# Altium footprint library JST GH connector.PcbLib: 28 footprints (part 1 of 2)
Each footprint in its own frame and in the unit in brackets; x right, y up, seen from the top. Pads: shape width x height; smd on the part's side, far side on the other; paste and mask are expansions set on the pad; w line width, h text height; cw(c..) or ccw(c..) is an arc to the next point about the centre after c.
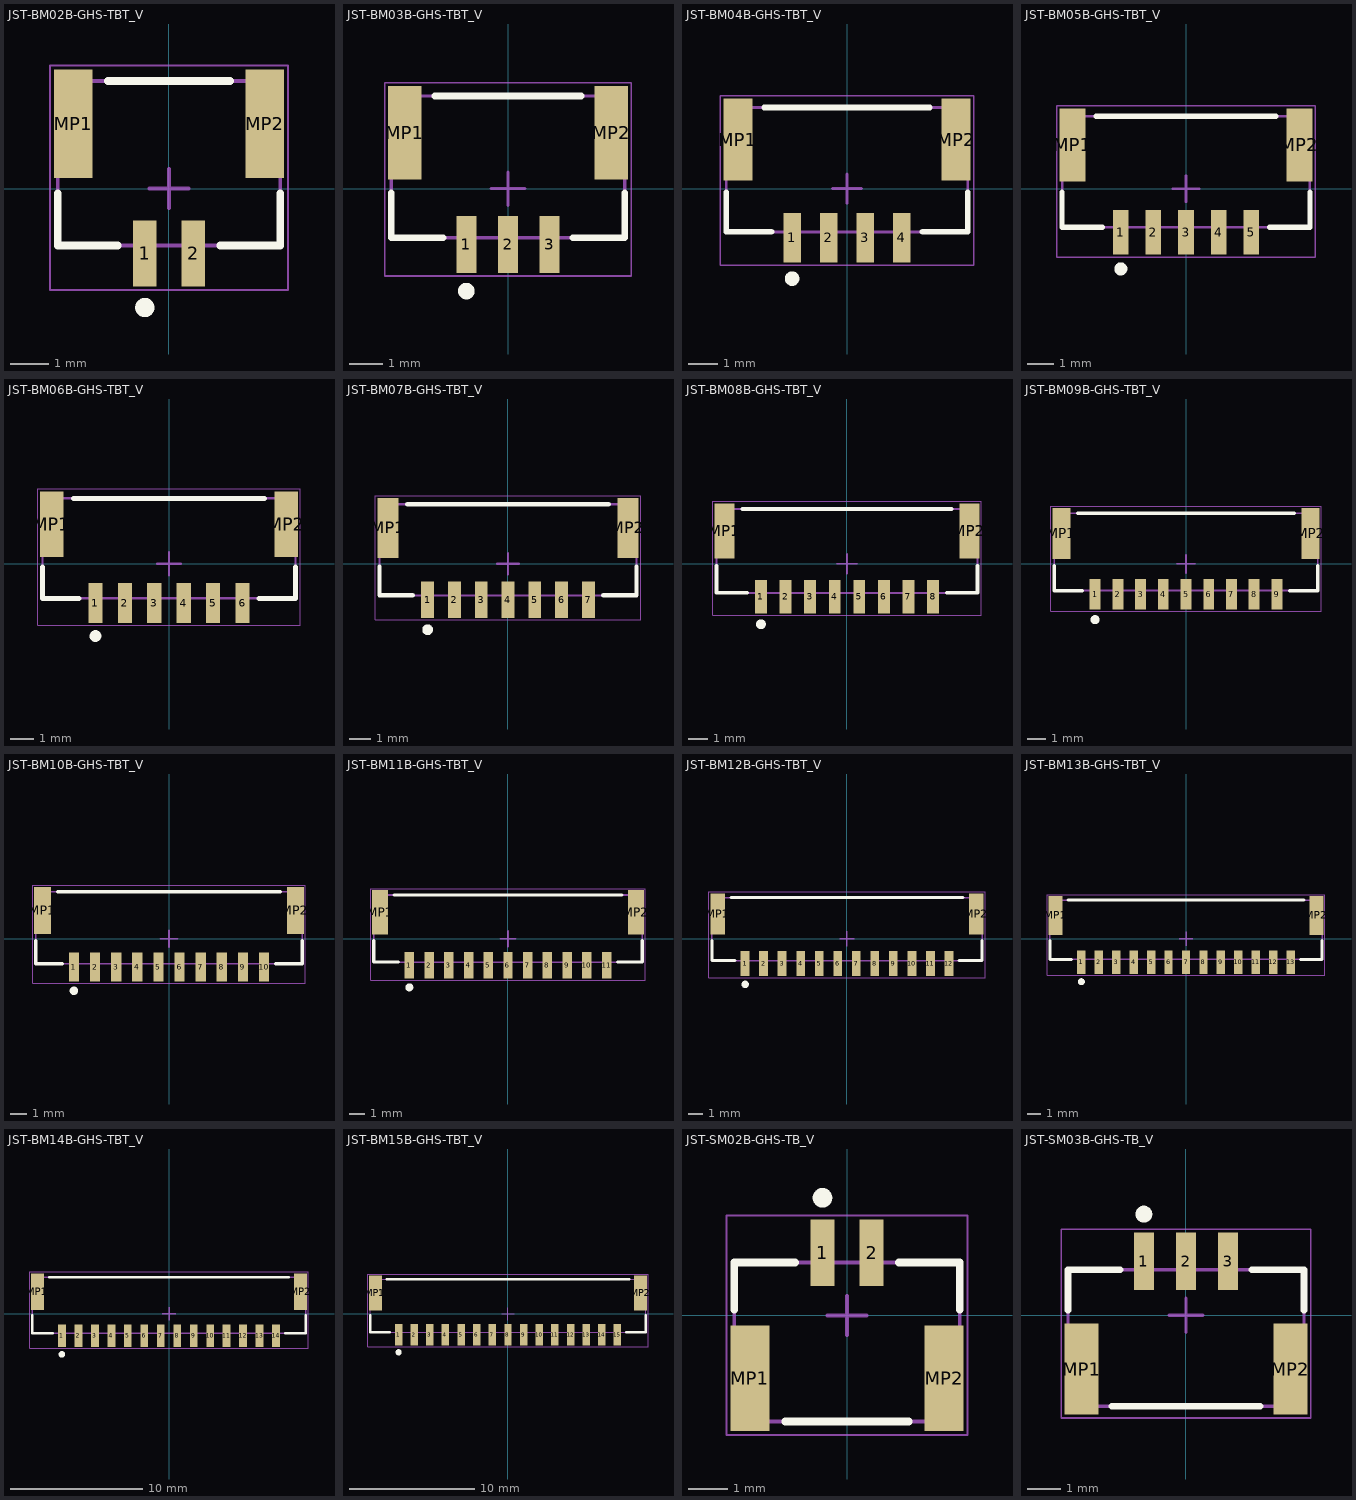
[diagram p0: the footprints below, top view; thin cyan lines are the x and y axes]

## JST-BM02B-GHS-TBT_V [mm] "Connector, 2-Leads, Body 5.75x4.25mm, Pitch 1.25mm"
height 4.05
pads (4):
  rect 0.6x1.7 smd: 1(-0.625,-1.675) 2(0.625,-1.675)
  rect 1x2.8 smd: MP1(-2.475,1.675) MP2(2.475,1.675)
Top Overlay:
  circle w0.25: c-0.625,-3.075 r0.125
  lines w0.2: -2.875,-0.125 -2.875,-1.475 -1.325,-1.475 ; -1.575,2.775 1.575,2.775 ; 1.325,-1.475 2.875,-1.475 2.875,-0.125
Mechanical 13:
  lines w0.1: -2.875,-1.475 2.875,-1.475 2.875,2.775 -2.875,2.775 -2.875,-1.475
Mechanical 15:
  lines w0.05: -3.075,-2.625 3.075,-2.625 3.075,3.175 -3.075,3.175 -3.075,-2.625
  lines w0.1: -0.5,0 0.5,0 ; 0,-0.5 0,0.5
3D body "BM02B-GHS-TBT.STEP": height 4.21, standoff 0.01, extent -2.875,-2.175 2.875,2.775

## JST-BM03B-GHS-TBT_V [mm] "Connector, 3-Leads, Body 7.00x4.25mm, Pitch 1.25mm"
height 4.05
pads (5):
  rect 0.6x1.7 smd: 1(-1.25,-1.675) 2(0,-1.675) 3(1.25,-1.675)
  rect 1x2.8 smd: MP1(-3.1,1.675) MP2(3.1,1.675)
Top Overlay:
  circle w0.25: c-1.25,-3.075 r0.125
  lines w0.2: -3.5,-0.125 -3.5,-1.475 -1.95,-1.475 ; -2.2,2.775 2.2,2.775 ; 1.95,-1.475 3.5,-1.475 3.5,-0.125
Mechanical 13:
  lines w0.1: -3.5,-1.475 -3.5,2.775 3.5,2.775 3.5,-1.475 -3.5,-1.475
Mechanical 15:
  lines w0.05: -3.7,-2.625 -3.7,3.175 3.7,3.175 3.7,-2.625 -3.7,-2.625
  lines w0.1: -0.5,0 0.5,0 ; 0,-0.5 0,0.5
3D body "BM03B-GHS-TBT.STEP": height 4.21, standoff 0.01, extent -3.5,-2.175 3.5,2.775

## JST-BM04B-GHS-TBT_V [mm] "Connector, 4-Leads, Body 8.25x4.25mm, Pitch 1.25mm"
height 4.05
pads (6):
  rect 0.6x1.7 smd: 1(-1.875,-1.675) 2(-0.625,-1.675) 3(0.625,-1.675) 4(1.875,-1.675)
  rect 1x2.8 smd: MP1(-3.725,1.675) MP2(3.725,1.675)
Top Overlay:
  circle w0.25: c-1.875,-3.075 r0.125
  lines w0.2: -4.125,-0.125 -4.125,-1.475 -2.575,-1.475 ; -2.825,2.775 2.825,2.775 ; 2.575,-1.475 4.125,-1.475 4.125,-0.125
Mechanical 13:
  lines w0.1: -4.125,-1.475 -4.125,2.775 4.125,2.775 4.125,-1.475 -4.125,-1.475
Mechanical 15:
  lines w0.05: -4.325,-2.625 -4.325,3.175 4.325,3.175 4.325,-2.625 -4.325,-2.625
  lines w0.1: -0.5,0 0.5,0 ; 0,-0.5 0,0.5
3D body "BM04B-GHS-TBT.STEP": height 4.2, standoff 0, extent -4.125,-2.175 4.125,2.775

## JST-BM05B-GHS-TBT_V [mm] "Connector, 5-Leads, Body 9.5x4.25mm, Pitch 1.25mm"
height 4.05
pads (7):
  rect 0.6x1.7 smd: 1(-2.5,-1.675) 2(-1.25,-1.675) 3(0,-1.675) 4(1.25,-1.675) 5(2.5,-1.675)
  rect 1x2.8 smd: MP1(-4.35,1.675) MP2(4.35,1.675)
Top Overlay:
  circle w0.25: c-2.5,-3.075 r0.125
  lines w0.2: -4.75,-0.125 -4.75,-1.475 -3.2,-1.475 ; -3.45,2.775 3.45,2.775 ; 3.2,-1.475 4.75,-1.475 4.75,-0.125
Mechanical 13:
  lines w0.1: -4.75,-1.475 -4.75,2.775 4.75,2.775 4.75,-1.475 -4.75,-1.475
Mechanical 15:
  lines w0.05: -4.95,-2.625 -4.95,3.175 4.95,3.175 4.95,-2.625 -4.95,-2.625
  lines w0.1: -0.5,0 0.5,0 ; 0,-0.5 0,0.5
3D body "BM05B-GHS-TBT.STEP": height 4.2, standoff 0, extent -4.75,-2.175 4.75,2.775

## JST-BM06B-GHS-TBT_V [mm] "Connector, 6-Leads, Body 10.75x4.25mm, Pitch 1.25mm"
height 4.05
pads (8):
  rect 0.6x1.7 smd: 1(-3.125,-1.675) 2(-1.875,-1.675) 3(-0.625,-1.675) 4(0.625,-1.675) 5(1.875,-1.675) 6(3.125,-1.675)
  rect 1x2.8 smd: MP1(-4.975,1.675) MP2(4.975,1.675)
Top Overlay:
  circle w0.25: c-3.125,-3.075 r0.125
  lines w0.2: -5.375,-0.125 -5.375,-1.475 -3.825,-1.475 ; -4.075,2.775 4.075,2.775 ; 3.825,-1.475 5.375,-1.475 5.375,-0.125
Mechanical 13:
  lines w0.1: -5.375,-1.475 -5.375,2.775 5.375,2.775 5.375,-1.475 -5.375,-1.475
Mechanical 15:
  lines w0.05: -5.575,-2.625 -5.575,3.175 5.575,3.175 5.575,-2.625 -5.575,-2.625
  lines w0.1: -0.5,0 0.5,0 ; 0,-0.5 0,0.5
3D body "BM06B-GHS-TBT.STEP": height 4.2, standoff 0, extent -5.375,-2.175 5.375,2.775

## JST-BM07B-GHS-TBT_V [mm] "Connector, 7-Leads, Body 12.00x4.25mm, Pitch 1.25mm"
height 4.05
pads (9):
  rect 0.6x1.7 smd: 1(-3.75,-1.675) 2(-2.5,-1.675) 3(-1.25,-1.675) 4(0,-1.675) 5(1.25,-1.675) 6(2.5,-1.675) 7(3.75,-1.675)
  rect 1x2.8 smd: MP1(-5.6,1.675) MP2(5.6,1.675)
Top Overlay:
  circle w0.25: c-3.75,-3.075 r0.125
  lines w0.2: -6,-0.125 -6,-1.475 -4.45,-1.475 ; -4.7,2.775 4.7,2.775 ; 4.45,-1.475 6,-1.475 6,-0.125
Mechanical 13:
  lines w0.1: -6,-1.475 -6,2.775 6,2.775 6,-1.475 -6,-1.475
Mechanical 15:
  lines w0.05: -6.2,-2.625 -6.2,3.175 6.2,3.175 6.2,-2.625 -6.2,-2.625
  lines w0.1: -0.5,0 0.5,0 ; 0,-0.5 0,0.5
3D body "BM07B-GHS-TBT.STEP": height 4.2, standoff 0, extent -6,-2.175 6,2.775

## JST-BM08B-GHS-TBT_V [mm] "Connector, 8-Leads, Body 13.25x4.25mm, Pitch 1.25mm"
height 4.05
pads (10):
  rect 0.6x1.7 smd: 1(-4.375,-1.675) 2(-3.125,-1.675) 3(-1.875,-1.675) 4(-0.625,-1.675) 5(0.625,-1.675) 6(1.875,-1.675) 7(3.125,-1.675) 8(4.375,-1.675)
  rect 1x2.8 smd: MP1(-6.225,1.675) MP2(6.225,1.675)
Top Overlay:
  circle w0.25: c-4.375,-3.075 r0.125
  lines w0.2: -6.625,-0.125 -6.625,-1.475 -5.075,-1.475 ; -5.325,2.775 5.325,2.775 ; 5.075,-1.475 6.625,-1.475 6.625,-0.125
Mechanical 13:
  lines w0.1: -6.625,-1.475 6.625,-1.475 6.625,2.775 -6.625,2.775 -6.625,-1.475
Mechanical 15:
  lines w0.05: -6.825,-2.625 6.825,-2.625 6.825,3.175 -6.825,3.175 -6.825,-2.625
  lines w0.1: -0.5,0 0.5,0 ; 0,-0.5 0,0.5
3D body "BM08B-GHS-TBT.STEP": height 4.2, standoff 0, extent -6.625,-2.175 6.625,2.775

## JST-BM09B-GHS-TBT_V [mm] "Connector, 9-Leads, Body  14.50x4.25mm, Pitch 1.25mm"
height 4.05
pads (11):
  rect 0.6x1.7 smd: 1(-5,-1.675) 2(-3.75,-1.675) 3(-2.5,-1.675) 4(-1.25,-1.675) 5(0,-1.675) 6(1.25,-1.675) 7(2.5,-1.675) 8(3.75,-1.675) 9(5,-1.675)
  rect 1x2.8 smd: MP1(-6.85,1.675) MP2(6.85,1.675)
Top Overlay:
  circle w0.25: c-5,-3.075 r0.125
  lines w0.2: -7.25,-0.125 -7.25,-1.475 -5.7,-1.475 ; -5.95,2.775 5.95,2.775 ; 5.7,-1.475 7.25,-1.475 7.25,-0.125
Mechanical 13:
  lines w0.1: -7.25,-1.475 -7.25,2.775 7.25,2.775 7.25,-1.475 -7.25,-1.475
Mechanical 15:
  lines w0.05: -7.45,-2.625 -7.45,3.175 7.45,3.175 7.45,-2.625 -7.45,-2.625
  lines w0.1: -0.5,0 0.5,0 ; 0,-0.5 0,0.5
3D body "BM09B-GHS-TBT.STEP": height 4.2, standoff 0, extent -7.25,-2.175 7.25,2.775

## JST-BM10B-GHS-TBT_V [mm] "Connector, 10-Leads, Body  15.75x4.25mm, Pitch 1.25mm"
height 4.05
pads (12):
  rect 0.6x1.7 smd: 1(-5.625,-1.675) 2(-4.375,-1.675) 3(-3.125,-1.675) 4(-1.875,-1.675) 5(-0.625,-1.675) 6(0.625,-1.675) 7(1.875,-1.675) 8(3.125,-1.675) 9(4.375,-1.675) 10(5.625,-1.675)
  rect 1x2.8 smd: MP1(-7.475,1.675) MP2(7.475,1.675)
Top Overlay:
  circle w0.25: c-5.625,-3.075 r0.125
  lines w0.2: -7.875,-0.125 -7.875,-1.475 -6.325,-1.475 ; -6.575,2.775 6.575,2.775 ; 6.325,-1.475 7.875,-1.475 7.875,-0.125
Mechanical 13:
  lines w0.1: -7.875,-1.475 7.875,-1.475 7.875,2.775 -7.875,2.775 -7.875,-1.475
Mechanical 15:
  lines w0.05: -8.075,-2.625 8.075,-2.625 8.075,3.175 -8.075,3.175 -8.075,-2.625
  lines w0.1: -0.5,0 0.5,0 ; 0,-0.5 0,0.5
3D body "BM10B-GHS-TBT.STEP": height 4.2, standoff 0, extent -7.875,-2.175 7.875,2.775

## JST-BM11B-GHS-TBT_V [mm] "Connector, 11-Leads, Body  17.00x4.25mm, Pitch 1.25mm"
height 4.05
pads (13):
  rect 0.6x1.7 smd: 1(-6.25,-1.675) 2(-5,-1.675) 3(-3.75,-1.675) 4(-2.5,-1.675) 5(-1.25,-1.675) 6(0,-1.675) 7(1.25,-1.675) 8(2.5,-1.675) 9(3.75,-1.675) 10(5,-1.675) 11(6.25,-1.675)
  rect 1x2.8 smd: MP1(-8.1,1.675) MP2(8.1,1.675)
Top Overlay:
  circle w0.25: c-6.25,-3.075 r0.125
  lines w0.2: -8.5,-0.125 -8.5,-1.475 -6.95,-1.475 ; -7.2,2.775 7.2,2.775 ; 6.95,-1.475 8.5,-1.475 8.5,-0.125
Mechanical 13:
  lines w0.1: -8.5,-1.475 -8.5,2.775 8.5,2.775 8.5,-1.475 -8.5,-1.475
Mechanical 15:
  lines w0.05: -8.7,-2.625 -8.7,3.175 8.7,3.175 8.7,-2.625 -8.7,-2.625
  lines w0.1: -0.5,0 0.5,0 ; 0,-0.5 0,0.5
3D body "BM11B-GHS-TBT.STEP": height 4.2, standoff 0, extent -8.5,-2.175 8.5,2.775

## JST-BM12B-GHS-TBT_V [mm] "Connector, 12-Leads, Body  18.25x4.25mm, Pitch 1.25mm"
height 4.05
pads (14):
  rect 0.6x1.7 smd: 1(-6.875,-1.675) 2(-5.625,-1.675) 3(-4.375,-1.675) 4(-3.125,-1.675) 5(-1.875,-1.675) 6(-0.625,-1.675) 7(0.625,-1.675) 8(1.875,-1.675) 9(3.125,-1.675) 10(4.375,-1.675) 11(5.625,-1.675) 12(6.875,-1.675)
  rect 1x2.8 smd: MP1(-8.725,1.675) MP2(8.725,1.675)
Top Overlay:
  circle w0.25: c-6.875,-3.075 r0.125
  lines w0.2: -9.125,-0.125 -9.125,-1.475 -7.575,-1.475 ; -7.825,2.775 7.825,2.775 ; 7.575,-1.475 9.125,-1.475 9.125,-0.125
Mechanical 13:
  lines w0.1: -9.125,-1.475 9.125,-1.475 9.125,2.775 -9.125,2.775 -9.125,-1.475
Mechanical 15:
  lines w0.05: -9.325,-2.625 9.325,-2.625 9.325,3.175 -9.325,3.175 -9.325,-2.625
  lines w0.1: -0.5,0 0.5,0 ; 0,-0.5 0,0.5
3D body "BM12B-GHS-TBT.STEP": height 4.2, standoff 0, extent -9.125,-2.175 9.125,2.775

## JST-BM13B-GHS-TBT_V [mm] "Connector, 13-Leads, Body  19.50x4.25mm, Pitch 1.25mm"
height 4.05
pads (15):
  rect 0.6x1.7 smd: 1(-7.5,-1.675) 2(-6.25,-1.675) 3(-5,-1.675) 4(-3.75,-1.675) 5(-2.5,-1.675) 6(-1.25,-1.675) 7(0,-1.675) 8(1.25,-1.675) 9(2.5,-1.675) 10(3.75,-1.675) 11(5,-1.675) 12(6.25,-1.675) 13(7.5,-1.675)
  rect 1x2.8 smd: MP1(-9.35,1.675) MP2(9.35,1.675)
Top Overlay:
  circle w0.25: c-7.5,-3.075 r0.125
  lines w0.2: -9.75,-0.125 -9.75,-1.475 -8.2,-1.475 ; -8.45,2.775 8.45,2.775 ; 8.2,-1.475 9.75,-1.475 9.75,-0.125
Mechanical 13:
  lines w0.1: -9.75,-1.475 -9.75,2.775 9.75,2.775 9.75,-1.475 -9.75,-1.475
Mechanical 15:
  lines w0.05: -9.95,-2.625 -9.95,3.175 9.95,3.175 9.95,-2.625 -9.95,-2.625
  lines w0.1: -0.5,0 0.5,0 ; 0,-0.5 0,0.5
3D body "BM13B-GHS-TBT.STEP": height 4.2, standoff 0, extent -9.75,-2.175 9.75,2.775

## JST-BM14B-GHS-TBT_V [mm] "Connector, 14-Leads, Body  20.75x4.25mm, Pitch 1.25mm"
height 4.05
pads (16):
  rect 0.6x1.7 smd: 1(-8.125,-1.675) 2(-6.875,-1.675) 3(-5.625,-1.675) 4(-4.375,-1.675) 5(-3.125,-1.675) 6(-1.875,-1.675) 7(-0.625,-1.675) 8(0.625,-1.675) 9(1.875,-1.675) 10(3.125,-1.675) 11(4.375,-1.675) 12(5.625,-1.675) 13(6.875,-1.675) 14(8.125,-1.675)
  rect 1x2.8 smd: MP1(-9.975,1.675) MP2(9.975,1.675)
Top Overlay:
  circle w0.25: c-8.125,-3.075 r0.125
  lines w0.2: -10.375,-0.125 -10.375,-1.475 -8.825,-1.475 ; -9.075,2.775 9.075,2.775 ; 8.825,-1.475 10.375,-1.475 10.375,-0.125
Mechanical 13:
  lines w0.1: -10.375,-1.475 10.375,-1.475 10.375,2.775 -10.375,2.775 -10.375,-1.475
Mechanical 15:
  lines w0.05: -10.575,-2.625 10.575,-2.625 10.575,3.175 -10.575,3.175 -10.575,-2.625
  lines w0.1: -0.5,0 0.5,0 ; 0,-0.5 0,0.5
3D body "BM14B-GHS-TBT.STEP": height 4.2, standoff 0, extent -10.375,-2.175 10.375,2.775

## JST-BM15B-GHS-TBT_V [mm] "Connector, 15-Leads, Body  22.00x4.25mm, Pitch 1.25mm"
height 4.05
pads (17):
  rect 0.6x1.7 smd: 1(-8.75,-1.675) 2(-7.5,-1.675) 3(-6.25,-1.675) 4(-5,-1.675) 5(-3.75,-1.675) 6(-2.5,-1.675) 7(-1.25,-1.675) 8(0,-1.675) 9(1.25,-1.675) 10(2.5,-1.675) 11(3.75,-1.675) 12(5,-1.675) 13(6.25,-1.675) 14(7.5,-1.675) 15(8.75,-1.675)
  rect 1x2.8 smd: MP1(-10.6,1.675) MP2(10.6,1.675)
Top Overlay:
  circle w0.25: c-8.75,-3.075 r0.125
  lines w0.2: -11,-0.125 -11,-1.475 -9.45,-1.475 ; -9.7,2.775 9.7,2.775 ; 9.45,-1.475 11,-1.475 11,-0.125
Mechanical 13:
  lines w0.1: -11,-1.475 -11,2.775 11,2.775 11,-1.475 -11,-1.475
Mechanical 15:
  lines w0.05: -11.2,-2.625 -11.2,3.175 11.2,3.175 11.2,-2.625 -11.2,-2.625
  lines w0.1: -0.5,0 0.5,0 ; 0,-0.5 0,0.5
3D body "BM15B-GHS-TBT.STEP": height 4.2, standoff 0, extent -11,-2.175 11,2.775

## JST-SM02B-GHS-TB_V [mm] "SMD, 2-Leads, Body 5.75x4.05mm, Pitch 1.25mm"
height 4.35
pads (4):
  rect 0.6x1.7 smd: 1(-0.625,1.6) 2(0.625,1.6)
  rect 1x2.7 smd: MP1(-2.475,-1.6) MP2(2.475,-1.6)
Top Overlay:
  circle w0.25: c-0.625,3 r0.125
  lines w0.2: -2.875,0.15 -2.875,1.35 -1.325,1.35 ; -1.575,-2.7 1.575,-2.7 ; 1.325,1.35 2.875,1.35 2.875,0.15
Mechanical 13:
  lines w0.1: -2.875,-2.7 -2.875,1.35 2.875,1.35 2.875,-2.7 -2.875,-2.7
Mechanical 15:
  lines w0.05: -3.075,-3.05 -3.075,2.55 3.075,2.55 3.075,-3.05 -3.075,-3.05
  lines w0.1: -0.5,0 0.5,0 ; 0,-0.5 0,0.5
3D body "SM02B-GHS-TB.stp": height 4.35, standoff 0.05, extent -2.875,-2.7 2.875,2.15

## JST-SM03B-GHS-TB_V [mm] "SMD, 3-Leads, Body 7.00x4.05mm, Pitch 1.25mm"
height 4.35
pads (5):
  rect 0.6x1.7 smd: 1(-1.25,1.6) 2(0,1.6) 3(1.25,1.6)
  rect 1x2.7 smd: MP1(-3.1,-1.6) MP2(3.1,-1.6)
Top Overlay:
  circle w0.25: c-1.25,3 r0.125
  lines w0.2: -3.5,0.15 -3.5,1.35 -1.95,1.35 ; -2.2,-2.7 2.2,-2.7 ; 1.95,1.35 3.5,1.35 3.5,0.15
Mechanical 13:
  lines w0.1: -3.5,-2.7 3.5,-2.7 3.5,1.35 -3.5,1.35 -3.5,-2.7
Mechanical 15:
  lines w0.05: -3.7,-3.05 3.7,-3.05 3.7,2.55 -3.7,2.55 -3.7,-3.05
  lines w0.1: -0.5,0 0.5,0 ; 0,-0.5 0,0.5
3D body "SM03B-GHS-TB.stp": height 4.35, standoff 0.05, extent -3.5,-2.7 3.5,2.15